# EAGLE library part SMD-BLACK-FEMALE-HEADER-R/A(20P-2.54) (library Seeed-OPL-Connector)
320030042
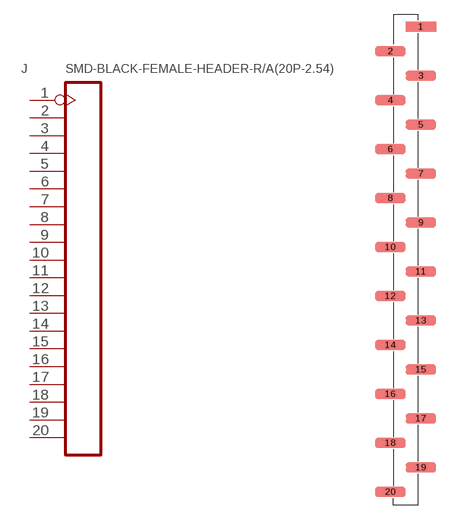
[diagram p112: symbol with the pads of H20-SMD-2.54; footprint H20-SMD-2.54]

Designator prefix J

## SMD-BLACK-FEMALE-HEADER-R/A(20P-2.54) (MPN: F171-1120AOBMUB1; VALUE: 20p-smd-2.54)  [H20-SMD-2.54]
1  1  pas
2  2  pas
3  3  pas
4  4  pas
5  5  pas
6  6  pas
7  7  pas
8  8  pas
9  9  pas
10  10  pas
11  11  pas
12  12  pas
13  13  pas
14  14  pas
15  15  pas
16  16  pas
17  17  pas
18  18  pas
19  19  pas
20  20  pas

## Footprint H20-SMD-2.54 (pad centres in mm)
smd 3.17 x 1.02: 1 1.585,24.13; 2 -1.585,21.59; 3 1.585,19.05; 4 -1.585,16.51; 5 1.585,13.97; 6 -1.585,11.43; 7 1.585,8.89; 8 -1.585,6.35; 9 1.585,3.81; 10 -1.585,1.27; 11 1.585,-1.27; 12 -1.585,-3.81; 13 1.585,-6.35; 14 -1.585,-8.89; 15 1.585,-11.43; 16 -1.585,-13.97; 17 1.585,-16.51; 18 -1.585,-19.05; 19 1.585,-21.59; 20 -1.585,-24.13